# EAGLE library part LM5066IPMHE/NOPB (library power_dist)
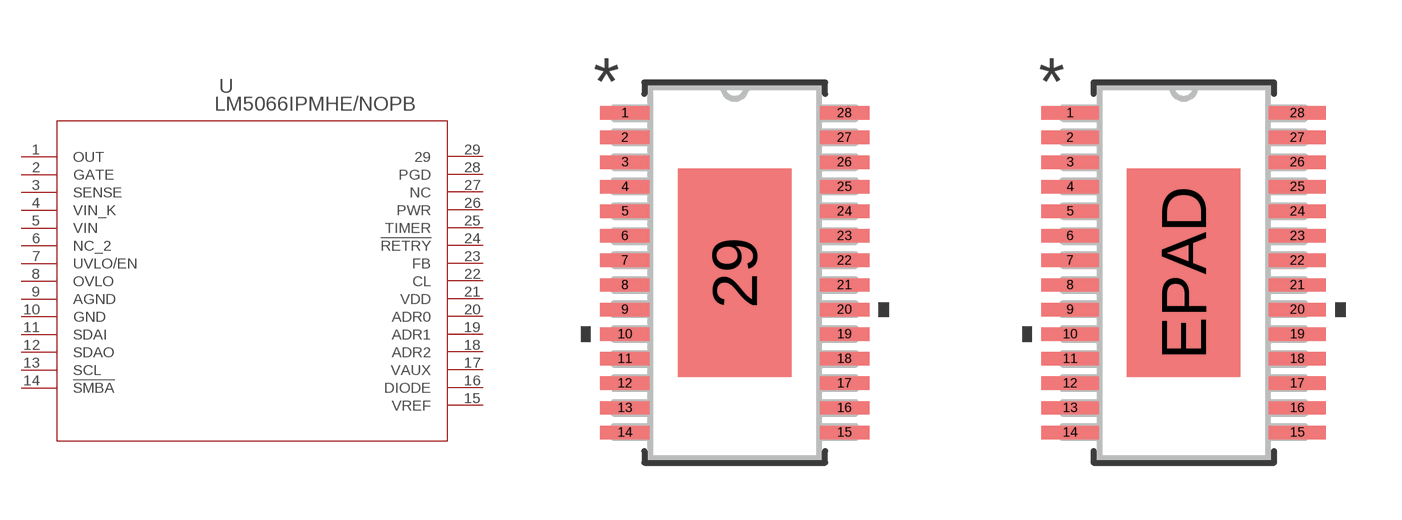
[diagram p7: symbol with the pads of MXA28A_TEX; footprints MXA28A_TEX, MXA28A_TEX-M]

Designator prefix U

## LM5066IPMHE/NOPB (BUILT_BY: EMA_UL_Team; MANUFACTURER: Texas Instruments; MANUFACTURER_PART_NUMBER: LM5066IPMHE/NOPB; SOURCELIBRARY: TI_2016-05-20; VENDOR: Texas Instruments)  [MXA28A_TEX]
1  OUT  out
2  GATE  out
3  SENSE  in
4  VIN_K  in
5  VIN  in
6  NC_2  nc
7  UVLO/EN  pas
8  OVLO  in
9  AGND  pwr
10  GND  pwr
11  SDAI  in
12  SDAO  out
13  SCL  pas
14  !SMBA  pas
15  VREF  pas
16  DIODE  pas
17  VAUX  in
18  ADR2  pas
19  ADR1  pas
20  ADR0  pas
21  VDD  pwr
22  CL  pas
23  FB  out
24  !RETRY  in
25  TIMER  pas
26  PWR  pwr
27  NC  nc
28  PGD  pwr
29  29  pas

## LM5066IPMHE/NOPBMXA28A_TEX-M (BUILT_BY: EMA_UL_Team; MANUFACTURER: Texas Instruments; MANUFACTURER_PART_NUMBER: LM5066IPMHE/NOPB; SOURCELIBRARY: TI_2016-05-20; VENDOR: Texas Instruments)  [MXA28A_TEX-M]
1  OUT  out
2  GATE  out
3  SENSE  in
4  VIN_K  in
5  VIN  in
6  NC_2  nc
7  UVLO/EN  pas
8  OVLO  in
9  AGND  pwr
10  GND  pwr
11  SDAI  in
12  SDAO  out
13  SCL  pas
14  !SMBA  pas
15  VREF  pas
16  DIODE  pas
17  VAUX  in
18  ADR2  pas
19  ADR1  pas
20  ADR0  pas
21  VDD  pwr
22  CL  pas
23  FB  out
24  !RETRY  in
25  TIMER  pas
26  PWR  pwr
27  NC  nc
28  PGD  pwr
EPAD  29  pas

## LM5066IPMHE/NOPBMXA28A_TEX-L (BUILT_BY: EMA_UL_Team; MANUFACTURER: Texas Instruments; MANUFACTURER_PART_NUMBER: LM5066IPMHE/NOPB; SOURCELIBRARY: TI_2016-05-20; VENDOR: Texas Instruments)  [MXA28A_TEX-L]
Pads as for MXA28A_TEX-M

## Footprint MXA28A_TEX (pad centres in mm)
smd 1.308 x 0.356: 1 -2.902,4.225; 2 -2.902,3.575; 3 -2.902,2.925; 4 -2.902,2.275; 5 -2.902,1.625; 6 -2.902,0.975; 7 -2.902,0.325; 8 -2.902,-0.325; 9 -2.902,-0.975; 10 -2.902,-1.625; 11 -2.902,-2.275; 12 -2.902,-2.925; 13 -2.902,-3.575; 14 -2.902,-4.225; 15 2.902,-4.225; 16 2.902,-3.575; 17 2.902,-2.925; 18 2.902,-2.275; 19 2.902,-1.625; 20 2.902,-0.975; 21 2.902,-0.325; 22 2.902,0.325; 23 2.902,0.975; 24 2.902,1.625; 25 2.902,2.275; 26 2.902,2.925; 27 2.902,3.575; 28 2.902,4.225
smd 2.997 x 5.512: 29 0,0

## Footprint MXA28A_TEX-M (pad centres in mm)
smd 1.511 x 0.356: 1 -3.004,4.225; 2 -3.004,3.575; 3 -3.004,2.925; 4 -3.004,2.275; 5 -3.004,1.625; 6 -3.004,0.975; 7 -3.004,0.325; 8 -3.004,-0.325; 9 -3.004,-0.975; 10 -3.004,-1.625; 11 -3.004,-2.275; 12 -3.004,-2.925; 13 -3.004,-3.575; 14 -3.004,-4.225; 15 3.004,-4.225; 16 3.004,-3.575; 17 3.004,-2.925; 18 3.004,-2.275; 19 3.004,-1.625; 20 3.004,-0.975; 21 3.004,-0.325; 22 3.004,0.325; 23 3.004,0.975; 24 3.004,1.625; 25 3.004,2.275; 26 3.004,2.925; 27 3.004,3.575; 28 3.004,4.225
smd 2.997 x 5.512: EPAD 0,0

## Footprint MXA28A_TEX-L (pad centres in mm)
smd 1.105 x 0.305: 1 -2.8,4.225; 2 -2.8,3.575; 3 -2.8,2.925; 4 -2.8,2.275; 5 -2.8,1.625; 6 -2.8,0.975; 7 -2.8,0.325; 8 -2.8,-0.325; 9 -2.8,-0.975; 10 -2.8,-1.625; 11 -2.8,-2.275; 12 -2.8,-2.925; 13 -2.8,-3.575; 14 -2.8,-4.225; 15 2.8,-4.225; 16 2.8,-3.575; 17 2.8,-2.925; 18 2.8,-2.275; 19 2.8,-1.625; 20 2.8,-0.975; 21 2.8,-0.325; 22 2.8,0.325; 23 2.8,0.975; 24 2.8,1.625; 25 2.8,2.275; 26 2.8,2.925; 27 2.8,3.575; 28 2.8,4.225
smd 2.997 x 5.512: EPAD 0,0